# Altium footprint library QFN_Sq_65P_Side_L.PcbLib: 53 footprints (part 3 of 4)
Each footprint in its own frame and in the unit in brackets; x right, y up, seen from the top. Pads: shape width x height; smd on the part's side, far side on the other; paste and mask are expansions set on the pad; w line width, h text height; cw(c..) or ccw(c..) is an arc to the next point about the centre after c.
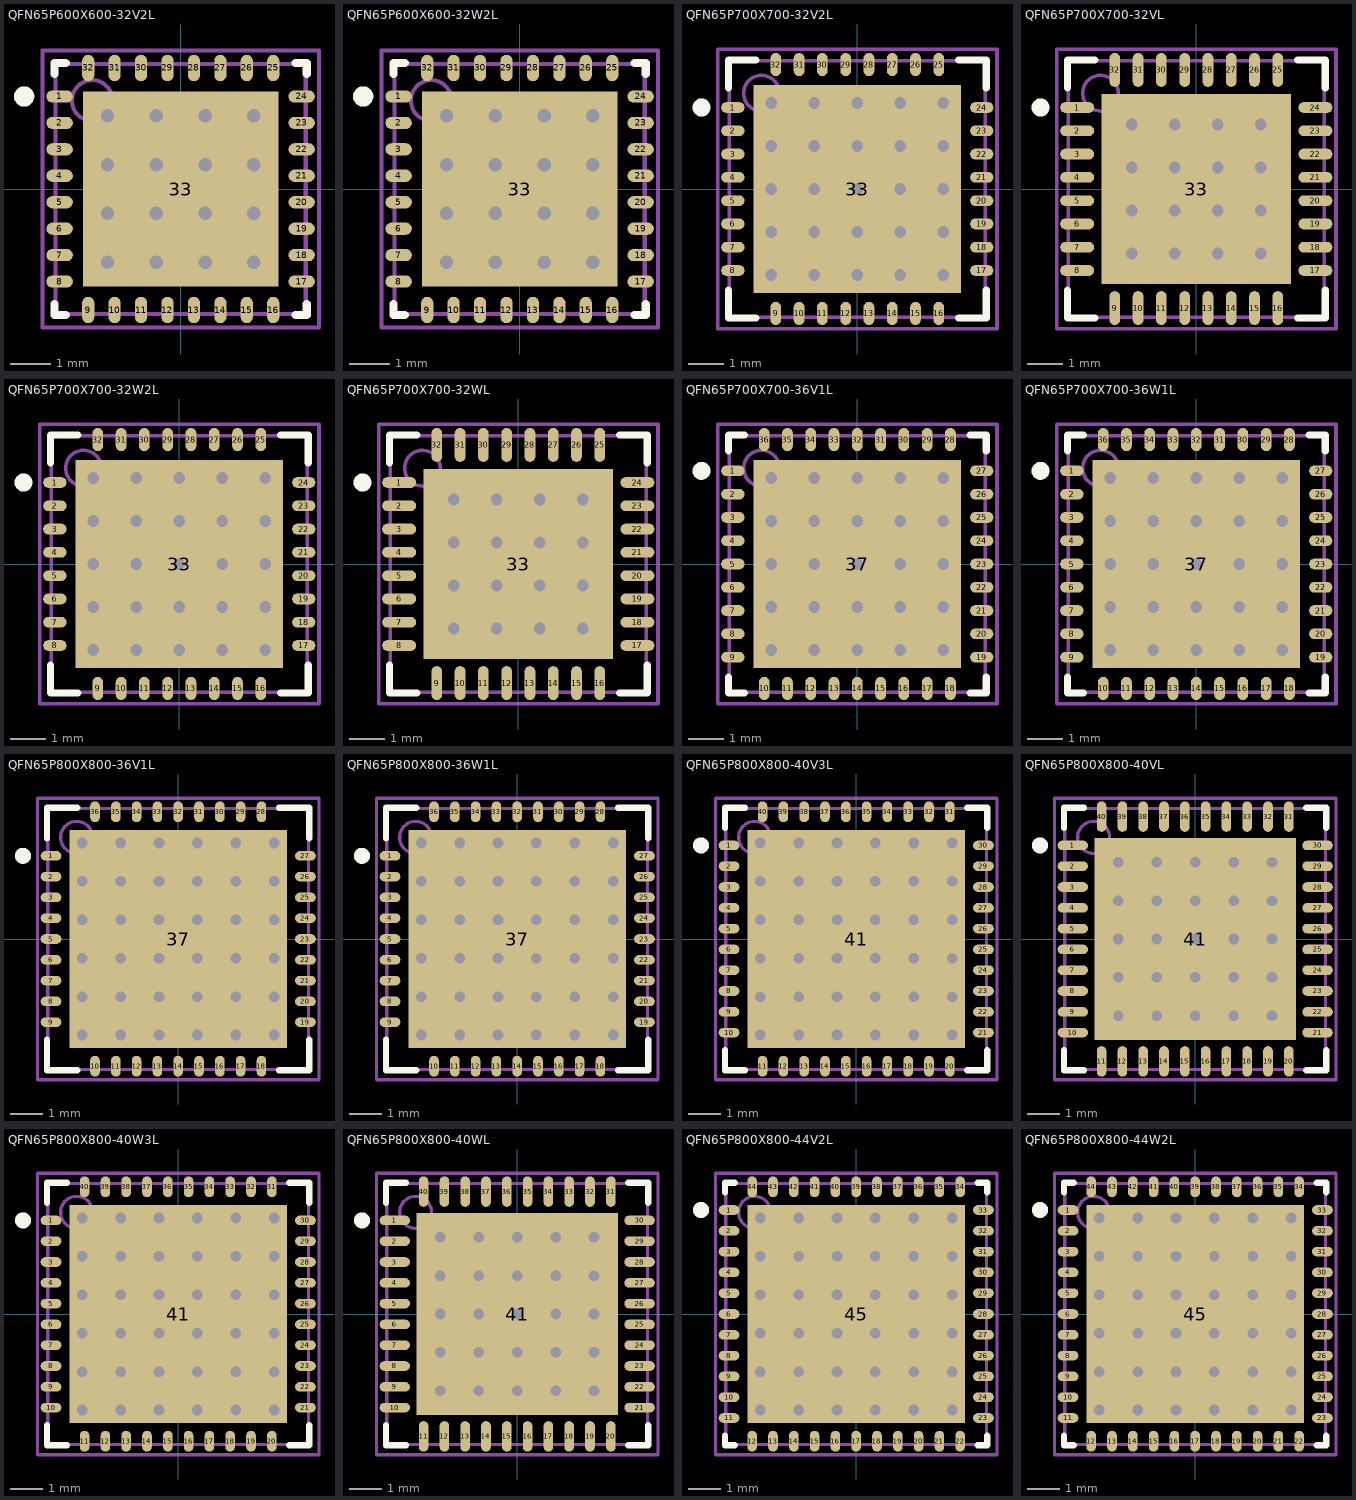
[diagram p2: the footprints below, top view; thin cyan lines are the x and y axes]

## QFN65P600X600-32V2L [mm] "QFN, 32-Leads, Body 6x6 mm, Pitch 0.65mm, IPC High Density"
height 1
pads (33):
  oval 0.65x0.3 smd: 1(-2.975,2.275) 2(-2.975,1.625) 3(-2.975,0.975) 4(-2.975,0.325) 5(-2.975,-0.325) 6(-2.975,-0.975) 7(-2.975,-1.625) 8(-2.975,-2.275) 17(2.975,-2.275) 18(2.975,-1.625) 19(2.975,-0.975) 20(2.975,-0.325) 21(2.975,0.325) 22(2.975,0.975) 23(2.975,1.625) 24(2.975,2.275)
  oval 0.3x0.65 smd: 9(-2.275,-2.975) 10(-1.625,-2.975) 11(-0.975,-2.975) 12(-0.325,-2.975) 13(0.325,-2.975) 14(0.975,-2.975) 15(1.625,-2.975) 16(2.275,-2.975) 25(2.275,2.975) 26(1.625,2.975) 27(0.975,2.975) 28(0.325,2.975) 29(-0.325,2.975) 30(-0.975,2.975) 31(-1.625,2.975) 32(-2.275,2.975)
  rect 4.8x4.8 smd: 33(0,0)
via 1.8,-1.8 diameter 0.66 hole 0.33
via 0.6,-1.8 diameter 0.66 hole 0.33
via -0.6,-1.8 diameter 0.66 hole 0.33
via -1.8,-1.8 diameter 0.66 hole 0.33
via 1.8,-0.6 diameter 0.66 hole 0.33
via 0.6,-0.6 diameter 0.66 hole 0.33
via -0.6,-0.6 diameter 0.66 hole 0.33
via -1.8,-0.6 diameter 0.66 hole 0.33
via 1.8,0.6 diameter 0.66 hole 0.33
via 0.6,0.6 diameter 0.66 hole 0.33
via -0.6,0.6 diameter 0.66 hole 0.33
via -1.8,0.6 diameter 0.66 hole 0.33
via 1.8,1.8 diameter 0.66 hole 0.33
via 0.6,1.8 diameter 0.66 hole 0.33
via -0.6,1.8 diameter 0.66 hole 0.33
via -1.8,1.8 diameter 0.66 hole 0.33
Top Overlay:
  circle w0.25: c-3.85,2.275 r0.125
  lines w0.2: -3.1,-2.825 -3.1,-3.1 -2.825,-3.1 ; -3.1,2.825 -3.1,3.1 -2.825,3.1 ; 2.825,-3.1 3.1,-3.1 3.1,-2.825 ; 2.825,3.1 3.1,3.1 3.1,2.825
Mechanical 13:
  circle w0.1: c-2.175,2.175 r0.5
  lines w0.1: -3.075,-3.075 3.075,-3.075 3.075,3.075 -3.075,3.075 -3.075,-3.075
Mechanical 15:
  lines w0.1: -0.5,0 0.5,0 ; 0,-0.5 0,0.5 ; -3.4,-3.4 3.4,-3.4 3.4,3.4 -3.4,3.4 -3.4,-3.4
3D body: height 1, standoff 0, extent -3.075,-3.075 3.075,3.075

## QFN65P600X600-32W2L [mm] "QFN, 32-Leads, Body 6x6 mm, Pitch 0.65mm, IPC High Density"
height 0.8
pads (33):
  oval 0.65x0.3 smd: 1(-2.975,2.275) 2(-2.975,1.625) 3(-2.975,0.975) 4(-2.975,0.325) 5(-2.975,-0.325) 6(-2.975,-0.975) 7(-2.975,-1.625) 8(-2.975,-2.275) 17(2.975,-2.275) 18(2.975,-1.625) 19(2.975,-0.975) 20(2.975,-0.325) 21(2.975,0.325) 22(2.975,0.975) 23(2.975,1.625) 24(2.975,2.275)
  oval 0.3x0.65 smd: 9(-2.275,-2.975) 10(-1.625,-2.975) 11(-0.975,-2.975) 12(-0.325,-2.975) 13(0.325,-2.975) 14(0.975,-2.975) 15(1.625,-2.975) 16(2.275,-2.975) 25(2.275,2.975) 26(1.625,2.975) 27(0.975,2.975) 28(0.325,2.975) 29(-0.325,2.975) 30(-0.975,2.975) 31(-1.625,2.975) 32(-2.275,2.975)
  rect 4.8x4.8 smd: 33(0,0)
via 1.8,-1.8 diameter 0.66 hole 0.33
via 0.6,-1.8 diameter 0.66 hole 0.33
via -0.6,-1.8 diameter 0.66 hole 0.33
via -1.8,-1.8 diameter 0.66 hole 0.33
via 1.8,-0.6 diameter 0.66 hole 0.33
via 0.6,-0.6 diameter 0.66 hole 0.33
via -0.6,-0.6 diameter 0.66 hole 0.33
via -1.8,-0.6 diameter 0.66 hole 0.33
via 1.8,0.6 diameter 0.66 hole 0.33
via 0.6,0.6 diameter 0.66 hole 0.33
via -0.6,0.6 diameter 0.66 hole 0.33
via -1.8,0.6 diameter 0.66 hole 0.33
via 1.8,1.8 diameter 0.66 hole 0.33
via 0.6,1.8 diameter 0.66 hole 0.33
via -0.6,1.8 diameter 0.66 hole 0.33
via -1.8,1.8 diameter 0.66 hole 0.33
Top Overlay:
  circle w0.25: c-3.85,2.275 r0.125
  lines w0.2: -3.1,-2.825 -3.1,-3.1 -2.825,-3.1 ; -3.1,2.825 -3.1,3.1 -2.825,3.1 ; 2.825,-3.1 3.1,-3.1 3.1,-2.825 ; 2.825,3.1 3.1,3.1 3.1,2.825
Mechanical 13:
  circle w0.1: c-2.175,2.175 r0.5
  lines w0.1: -3.075,-3.075 3.075,-3.075 3.075,3.075 -3.075,3.075 -3.075,-3.075
Mechanical 15:
  lines w0.1: -0.5,0 0.5,0 ; 0,-0.5 0,0.5 ; -3.4,-3.4 3.4,-3.4 3.4,3.4 -3.4,3.4 -3.4,-3.4
3D body: height 0.8, standoff 0, extent -3.075,-3.075 3.075,3.075

## QFN65P700X700-32V2L [mm] "QFN, 32-Leads, Body 7x7 mm, Pitch 0.65mm, IPC High Density"
height 1
pads (33):
  oval 0.65x0.3 smd: 1(-3.475,2.275) 2(-3.475,1.625) 3(-3.475,0.975) 4(-3.475,0.325) 5(-3.475,-0.325) 6(-3.475,-0.975) 7(-3.475,-1.625) 8(-3.475,-2.275) 17(3.475,-2.275) 18(3.475,-1.625) 19(3.475,-0.975) 20(3.475,-0.325) 21(3.475,0.325) 22(3.475,0.975) 23(3.475,1.625) 24(3.475,2.275)
  oval 0.3x0.65 smd: 9(-2.275,-3.475) 10(-1.625,-3.475) 11(-0.975,-3.475) 12(-0.325,-3.475) 13(0.325,-3.475) 14(0.975,-3.475) 15(1.625,-3.475) 16(2.275,-3.475) 25(2.275,3.475) 26(1.625,3.475) 27(0.975,3.475) 28(0.325,3.475) 29(-0.325,3.475) 30(-0.975,3.475) 31(-1.625,3.475) 32(-2.275,3.475)
  rect 5.8x5.8 smd: 33(0,0)
via 2.4,-2.4 diameter 0.66 hole 0.33
via 1.2,-2.4 diameter 0.66 hole 0.33
via 0,-2.4 diameter 0.66 hole 0.33
via -1.2,-2.4 diameter 0.66 hole 0.33
via -2.4,-2.4 diameter 0.66 hole 0.33
via 2.4,-1.2 diameter 0.66 hole 0.33
via 1.2,-1.2 diameter 0.66 hole 0.33
via 0,-1.2 diameter 0.66 hole 0.33
via -1.2,-1.2 diameter 0.66 hole 0.33
via -2.4,-1.2 diameter 0.66 hole 0.33
via 2.4,0 diameter 0.66 hole 0.33
via 1.2,0 diameter 0.66 hole 0.33
via 0,0 diameter 0.66 hole 0.33
via -1.2,0 diameter 0.66 hole 0.33
via -2.4,0 diameter 0.66 hole 0.33
via 2.4,1.2 diameter 0.66 hole 0.33
via 1.2,1.2 diameter 0.66 hole 0.33
via 0,1.2 diameter 0.66 hole 0.33
via -1.2,1.2 diameter 0.66 hole 0.33
via -2.4,1.2 diameter 0.66 hole 0.33
via 2.4,2.4 diameter 0.66 hole 0.33
via 1.2,2.4 diameter 0.66 hole 0.33
via 0,2.4 diameter 0.66 hole 0.33
via -1.2,2.4 diameter 0.66 hole 0.33
via -2.4,2.4 diameter 0.66 hole 0.33
Top Overlay:
  circle w0.25: c-4.35,2.275 r0.125
  lines w0.2: -3.6,-2.825 -3.6,-3.6 -2.825,-3.6 ; -3.6,2.825 -3.6,3.6 -2.825,3.6 ; 2.825,-3.6 3.6,-3.6 3.6,-2.825 ; 2.825,3.6 3.6,3.6 3.6,2.825
Mechanical 13:
  circle w0.1: c-2.675,2.675 r0.5
  lines w0.1: -3.575,-3.575 3.575,-3.575 3.575,3.575 -3.575,3.575 -3.575,-3.575
Mechanical 15:
  lines w0.1: -0.5,0 0.5,0 ; 0,-0.5 0,0.5 ; -3.9,-3.9 3.9,-3.9 3.9,3.9 -3.9,3.9 -3.9,-3.9
3D body: height 1, standoff 0, extent -3.575,-3.575 3.575,3.575

## QFN65P700X700-32VL [mm] "QFN, 32-Leads, Body 7x7 mm, Pitch 0.65mm, IPC High Density"
height 1
pads (33):
  oval 0.95x0.3 smd: 1(-3.325,2.275) 2(-3.325,1.625) 3(-3.325,0.975) 4(-3.325,0.325) 5(-3.325,-0.325) 6(-3.325,-0.975) 7(-3.325,-1.625) 8(-3.325,-2.275) 17(3.325,-2.275) 18(3.325,-1.625) 19(3.325,-0.975) 20(3.325,-0.325) 21(3.325,0.325) 22(3.325,0.975) 23(3.325,1.625) 24(3.325,2.275)
  oval 0.3x0.95 smd: 9(-2.275,-3.325) 10(-1.625,-3.325) 11(-0.975,-3.325) 12(-0.325,-3.325) 13(0.325,-3.325) 14(0.975,-3.325) 15(1.625,-3.325) 16(2.275,-3.325) 25(2.275,3.325) 26(1.625,3.325) 27(0.975,3.325) 28(0.325,3.325) 29(-0.325,3.325) 30(-0.975,3.325) 31(-1.625,3.325) 32(-2.275,3.325)
  rect 5.3x5.3 smd: 33(0,0)
via 1.8,-1.8 diameter 0.66 hole 0.33
via 0.6,-1.8 diameter 0.66 hole 0.33
via -0.6,-1.8 diameter 0.66 hole 0.33
via -1.8,-1.8 diameter 0.66 hole 0.33
via 1.8,-0.6 diameter 0.66 hole 0.33
via 0.6,-0.6 diameter 0.66 hole 0.33
via -0.6,-0.6 diameter 0.66 hole 0.33
via -1.8,-0.6 diameter 0.66 hole 0.33
via 1.8,0.6 diameter 0.66 hole 0.33
via 0.6,0.6 diameter 0.66 hole 0.33
via -0.6,0.6 diameter 0.66 hole 0.33
via -1.8,0.6 diameter 0.66 hole 0.33
via 1.8,1.8 diameter 0.66 hole 0.33
via 0.6,1.8 diameter 0.66 hole 0.33
via -0.6,1.8 diameter 0.66 hole 0.33
via -1.8,1.8 diameter 0.66 hole 0.33
Top Overlay:
  circle w0.25: c-4.35,2.275 r0.125
  lines w0.2: -3.6,-2.825 -3.6,-3.6 -2.825,-3.6 ; -3.6,2.825 -3.6,3.6 -2.825,3.6 ; 2.825,-3.6 3.6,-3.6 3.6,-2.825 ; 2.825,3.6 3.6,3.6 3.6,2.825
Mechanical 13:
  circle w0.1: c-2.675,2.675 r0.5
  lines w0.1: -3.575,-3.575 3.575,-3.575 3.575,3.575 -3.575,3.575 -3.575,-3.575
Mechanical 15:
  lines w0.1: -0.5,0 0.5,0 ; 0,-0.5 0,0.5 ; -3.9,-3.9 3.9,-3.9 3.9,3.9 -3.9,3.9 -3.9,-3.9
3D body: height 1, standoff 0, extent -3.575,-3.575 3.575,3.575

## QFN65P700X700-32W2L [mm] "QFN, 32-Leads, Body 7x7 mm, Pitch 0.65mm, IPC High Density"
height 0.8
pads (33):
  oval 0.65x0.3 smd: 1(-3.475,2.275) 2(-3.475,1.625) 3(-3.475,0.975) 4(-3.475,0.325) 5(-3.475,-0.325) 6(-3.475,-0.975) 7(-3.475,-1.625) 8(-3.475,-2.275) 17(3.475,-2.275) 18(3.475,-1.625) 19(3.475,-0.975) 20(3.475,-0.325) 21(3.475,0.325) 22(3.475,0.975) 23(3.475,1.625) 24(3.475,2.275)
  oval 0.3x0.65 smd: 9(-2.275,-3.475) 10(-1.625,-3.475) 11(-0.975,-3.475) 12(-0.325,-3.475) 13(0.325,-3.475) 14(0.975,-3.475) 15(1.625,-3.475) 16(2.275,-3.475) 25(2.275,3.475) 26(1.625,3.475) 27(0.975,3.475) 28(0.325,3.475) 29(-0.325,3.475) 30(-0.975,3.475) 31(-1.625,3.475) 32(-2.275,3.475)
  rect 5.8x5.8 smd: 33(0,0)
via 2.4,-2.4 diameter 0.66 hole 0.33
via 1.2,-2.4 diameter 0.66 hole 0.33
via 0,-2.4 diameter 0.66 hole 0.33
via -1.2,-2.4 diameter 0.66 hole 0.33
via -2.4,-2.4 diameter 0.66 hole 0.33
via 2.4,-1.2 diameter 0.66 hole 0.33
via 1.2,-1.2 diameter 0.66 hole 0.33
via 0,-1.2 diameter 0.66 hole 0.33
via -1.2,-1.2 diameter 0.66 hole 0.33
via -2.4,-1.2 diameter 0.66 hole 0.33
via 2.4,0 diameter 0.66 hole 0.33
via 1.2,0 diameter 0.66 hole 0.33
via 0,0 diameter 0.66 hole 0.33
via -1.2,0 diameter 0.66 hole 0.33
via -2.4,0 diameter 0.66 hole 0.33
via 2.4,1.2 diameter 0.66 hole 0.33
via 1.2,1.2 diameter 0.66 hole 0.33
via 0,1.2 diameter 0.66 hole 0.33
via -1.2,1.2 diameter 0.66 hole 0.33
via -2.4,1.2 diameter 0.66 hole 0.33
via 2.4,2.4 diameter 0.66 hole 0.33
via 1.2,2.4 diameter 0.66 hole 0.33
via 0,2.4 diameter 0.66 hole 0.33
via -1.2,2.4 diameter 0.66 hole 0.33
via -2.4,2.4 diameter 0.66 hole 0.33
Top Overlay:
  circle w0.25: c-4.35,2.275 r0.125
  lines w0.2: -3.6,-2.825 -3.6,-3.6 -2.825,-3.6 ; -3.6,2.825 -3.6,3.6 -2.825,3.6 ; 2.825,-3.6 3.6,-3.6 3.6,-2.825 ; 2.825,3.6 3.6,3.6 3.6,2.825
Mechanical 13:
  circle w0.1: c-2.675,2.675 r0.5
  lines w0.1: -3.575,-3.575 3.575,-3.575 3.575,3.575 -3.575,3.575 -3.575,-3.575
Mechanical 15:
  lines w0.1: -0.5,0 0.5,0 ; 0,-0.5 0,0.5 ; -3.9,-3.9 3.9,-3.9 3.9,3.9 -3.9,3.9 -3.9,-3.9
3D body: height 0.8, standoff 0, extent -3.575,-3.575 3.575,3.575

## QFN65P700X700-32WL [mm] "QFN, 32-Leads, Body 7x7 mm, Pitch 0.65mm, IPC High Density"
height 0.8
pads (33):
  oval 0.95x0.3 smd: 1(-3.325,2.275) 2(-3.325,1.625) 3(-3.325,0.975) 4(-3.325,0.325) 5(-3.325,-0.325) 6(-3.325,-0.975) 7(-3.325,-1.625) 8(-3.325,-2.275) 17(3.325,-2.275) 18(3.325,-1.625) 19(3.325,-0.975) 20(3.325,-0.325) 21(3.325,0.325) 22(3.325,0.975) 23(3.325,1.625) 24(3.325,2.275)
  oval 0.3x0.95 smd: 9(-2.275,-3.325) 10(-1.625,-3.325) 11(-0.975,-3.325) 12(-0.325,-3.325) 13(0.325,-3.325) 14(0.975,-3.325) 15(1.625,-3.325) 16(2.275,-3.325) 25(2.275,3.325) 26(1.625,3.325) 27(0.975,3.325) 28(0.325,3.325) 29(-0.325,3.325) 30(-0.975,3.325) 31(-1.625,3.325) 32(-2.275,3.325)
  rect 5.3x5.3 smd: 33(0,0)
via 1.8,-1.8 diameter 0.66 hole 0.33
via 0.6,-1.8 diameter 0.66 hole 0.33
via -0.6,-1.8 diameter 0.66 hole 0.33
via -1.8,-1.8 diameter 0.66 hole 0.33
via 1.8,-0.6 diameter 0.66 hole 0.33
via 0.6,-0.6 diameter 0.66 hole 0.33
via -0.6,-0.6 diameter 0.66 hole 0.33
via -1.8,-0.6 diameter 0.66 hole 0.33
via 1.8,0.6 diameter 0.66 hole 0.33
via 0.6,0.6 diameter 0.66 hole 0.33
via -0.6,0.6 diameter 0.66 hole 0.33
via -1.8,0.6 diameter 0.66 hole 0.33
via 1.8,1.8 diameter 0.66 hole 0.33
via 0.6,1.8 diameter 0.66 hole 0.33
via -0.6,1.8 diameter 0.66 hole 0.33
via -1.8,1.8 diameter 0.66 hole 0.33
Top Overlay:
  circle w0.25: c-4.35,2.275 r0.125
  lines w0.2: -3.6,-2.825 -3.6,-3.6 -2.825,-3.6 ; -3.6,2.825 -3.6,3.6 -2.825,3.6 ; 2.825,-3.6 3.6,-3.6 3.6,-2.825 ; 2.825,3.6 3.6,3.6 3.6,2.825
Mechanical 13:
  circle w0.1: c-2.675,2.675 r0.5
  lines w0.1: -3.575,-3.575 3.575,-3.575 3.575,3.575 -3.575,3.575 -3.575,-3.575
Mechanical 15:
  lines w0.1: -0.5,0 0.5,0 ; 0,-0.5 0,0.5 ; -3.9,-3.9 3.9,-3.9 3.9,3.9 -3.9,3.9 -3.9,-3.9
3D body: height 0.8, standoff 0, extent -3.575,-3.575 3.575,3.575

## QFN65P700X700-36V1L [mm] "QFN, 36-Leads, Body 7x7 mm, Pitch 0.65mm, IPC High Density"
height 1
pads (37):
  oval 0.65x0.3 smd: 1(-3.475,2.6) 2(-3.475,1.95) 3(-3.475,1.3) 4(-3.475,0.65) 5(-3.475,0) 6(-3.475,-0.65) 7(-3.475,-1.3) 8(-3.475,-1.95) 9(-3.475,-2.6) 19(3.475,-2.6) 20(3.475,-1.95) 21(3.475,-1.3) 22(3.475,-0.65) 23(3.475,0) 24(3.475,0.65) 25(3.475,1.3) 26(3.475,1.95) 27(3.475,2.6)
  oval 0.3x0.65 smd: 10(-2.6,-3.475) 11(-1.95,-3.475) 12(-1.3,-3.475) 13(-0.65,-3.475) 14(0,-3.475) 15(0.65,-3.475) 16(1.3,-3.475) 17(1.95,-3.475) 18(2.6,-3.475) 28(2.6,3.475) 29(1.95,3.475) 30(1.3,3.475) 31(0.65,3.475) 32(0,3.475) 33(-0.65,3.475) 34(-1.3,3.475) 35(-1.95,3.475) 36(-2.6,3.475)
  rect 5.8x5.8 smd: 37(0,0)
via 2.4,-2.4 diameter 0.66 hole 0.33
via 1.2,-2.4 diameter 0.66 hole 0.33
via 0,-2.4 diameter 0.66 hole 0.33
via -1.2,-2.4 diameter 0.66 hole 0.33
via -2.4,-2.4 diameter 0.66 hole 0.33
via 2.4,-1.2 diameter 0.66 hole 0.33
via 1.2,-1.2 diameter 0.66 hole 0.33
via 0,-1.2 diameter 0.66 hole 0.33
via -1.2,-1.2 diameter 0.66 hole 0.33
via -2.4,-1.2 diameter 0.66 hole 0.33
via 2.4,0 diameter 0.66 hole 0.33
via 1.2,0 diameter 0.66 hole 0.33
via 0,0 diameter 0.66 hole 0.33
via -1.2,0 diameter 0.66 hole 0.33
via -2.4,0 diameter 0.66 hole 0.33
via 2.4,1.2 diameter 0.66 hole 0.33
via 1.2,1.2 diameter 0.66 hole 0.33
via 0,1.2 diameter 0.66 hole 0.33
via -1.2,1.2 diameter 0.66 hole 0.33
via -2.4,1.2 diameter 0.66 hole 0.33
via 2.4,2.4 diameter 0.66 hole 0.33
via 1.2,2.4 diameter 0.66 hole 0.33
via 0,2.4 diameter 0.66 hole 0.33
via -1.2,2.4 diameter 0.66 hole 0.33
via -2.4,2.4 diameter 0.66 hole 0.33
Top Overlay:
  circle w0.25: c-4.35,2.6 r0.125
  lines w0.2: -3.6,-3.15 -3.6,-3.6 -3.15,-3.6 ; -3.6,3.15 -3.6,3.6 -3.15,3.6 ; 3.15,-3.6 3.6,-3.6 3.6,-3.15 ; 3.15,3.6 3.6,3.6 3.6,3.15
Mechanical 13:
  circle w0.1: c-2.675,2.675 r0.5
  lines w0.1: -3.575,-3.575 3.575,-3.575 3.575,3.575 -3.575,3.575 -3.575,-3.575
Mechanical 15:
  lines w0.1: -0.5,0 0.5,0 ; 0,-0.5 0,0.5 ; -3.9,-3.9 3.9,-3.9 3.9,3.9 -3.9,3.9 -3.9,-3.9
3D body: height 1, standoff 0, extent -3.575,-3.575 3.575,3.575

## QFN65P700X700-36W1L [mm] "QFN, 36-Leads, Body 7x7 mm, Pitch 0.65mm, IPC High Density"
height 0.8
pads (37):
  oval 0.65x0.3 smd: 1(-3.475,2.6) 2(-3.475,1.95) 3(-3.475,1.3) 4(-3.475,0.65) 5(-3.475,0) 6(-3.475,-0.65) 7(-3.475,-1.3) 8(-3.475,-1.95) 9(-3.475,-2.6) 19(3.475,-2.6) 20(3.475,-1.95) 21(3.475,-1.3) 22(3.475,-0.65) 23(3.475,0) 24(3.475,0.65) 25(3.475,1.3) 26(3.475,1.95) 27(3.475,2.6)
  oval 0.3x0.65 smd: 10(-2.6,-3.475) 11(-1.95,-3.475) 12(-1.3,-3.475) 13(-0.65,-3.475) 14(0,-3.475) 15(0.65,-3.475) 16(1.3,-3.475) 17(1.95,-3.475) 18(2.6,-3.475) 28(2.6,3.475) 29(1.95,3.475) 30(1.3,3.475) 31(0.65,3.475) 32(0,3.475) 33(-0.65,3.475) 34(-1.3,3.475) 35(-1.95,3.475) 36(-2.6,3.475)
  rect 5.8x5.8 smd: 37(0,0)
via 2.4,-2.4 diameter 0.66 hole 0.33
via 1.2,-2.4 diameter 0.66 hole 0.33
via 0,-2.4 diameter 0.66 hole 0.33
via -1.2,-2.4 diameter 0.66 hole 0.33
via -2.4,-2.4 diameter 0.66 hole 0.33
via 2.4,-1.2 diameter 0.66 hole 0.33
via 1.2,-1.2 diameter 0.66 hole 0.33
via 0,-1.2 diameter 0.66 hole 0.33
via -1.2,-1.2 diameter 0.66 hole 0.33
via -2.4,-1.2 diameter 0.66 hole 0.33
via 2.4,0 diameter 0.66 hole 0.33
via 1.2,0 diameter 0.66 hole 0.33
via 0,0 diameter 0.66 hole 0.33
via -1.2,0 diameter 0.66 hole 0.33
via -2.4,0 diameter 0.66 hole 0.33
via 2.4,1.2 diameter 0.66 hole 0.33
via 1.2,1.2 diameter 0.66 hole 0.33
via 0,1.2 diameter 0.66 hole 0.33
via -1.2,1.2 diameter 0.66 hole 0.33
via -2.4,1.2 diameter 0.66 hole 0.33
via 2.4,2.4 diameter 0.66 hole 0.33
via 1.2,2.4 diameter 0.66 hole 0.33
via 0,2.4 diameter 0.66 hole 0.33
via -1.2,2.4 diameter 0.66 hole 0.33
via -2.4,2.4 diameter 0.66 hole 0.33
Top Overlay:
  circle w0.25: c-4.35,2.6 r0.125
  lines w0.2: -3.6,-3.15 -3.6,-3.6 -3.15,-3.6 ; -3.6,3.15 -3.6,3.6 -3.15,3.6 ; 3.15,-3.6 3.6,-3.6 3.6,-3.15 ; 3.15,3.6 3.6,3.6 3.6,3.15
Mechanical 13:
  circle w0.1: c-2.675,2.675 r0.5
  lines w0.1: -3.575,-3.575 3.575,-3.575 3.575,3.575 -3.575,3.575 -3.575,-3.575
Mechanical 15:
  lines w0.1: -0.5,0 0.5,0 ; 0,-0.5 0,0.5 ; -3.9,-3.9 3.9,-3.9 3.9,3.9 -3.9,3.9 -3.9,-3.9
3D body: height 0.8, standoff 0, extent -3.575,-3.575 3.575,3.575

## QFN65P800X800-36V1L [mm] "QFN, 36-Leads, Body 8x8 mm, Pitch 0.65mm, IPC High Density"
height 1
pads (37):
  oval 0.65x0.3 smd: 1(-3.975,2.6) 2(-3.975,1.95) 3(-3.975,1.3) 4(-3.975,0.65) 5(-3.975,0) 6(-3.975,-0.65) 7(-3.975,-1.3) 8(-3.975,-1.95) 9(-3.975,-2.6) 19(3.975,-2.6) 20(3.975,-1.95) 21(3.975,-1.3) 22(3.975,-0.65) 23(3.975,0) 24(3.975,0.65) 25(3.975,1.3) 26(3.975,1.95) 27(3.975,2.6)
  oval 0.3x0.65 smd: 10(-2.6,-3.975) 11(-1.95,-3.975) 12(-1.3,-3.975) 13(-0.65,-3.975) 14(0,-3.975) 15(0.65,-3.975) 16(1.3,-3.975) 17(1.95,-3.975) 18(2.6,-3.975) 28(2.6,3.975) 29(1.95,3.975) 30(1.3,3.975) 31(0.65,3.975) 32(0,3.975) 33(-0.65,3.975) 34(-1.3,3.975) 35(-1.95,3.975) 36(-2.6,3.975)
  rect 6.8x6.8 smd: 37(0,0)
via 3,-3 diameter 0.66 hole 0.33
via 1.8,-3 diameter 0.66 hole 0.33
via 0.6,-3 diameter 0.66 hole 0.33
via -0.6,-3 diameter 0.66 hole 0.33
via -1.8,-3 diameter 0.66 hole 0.33
via -3,-3 diameter 0.66 hole 0.33
via 3,-1.8 diameter 0.66 hole 0.33
via 1.8,-1.8 diameter 0.66 hole 0.33
via 0.6,-1.8 diameter 0.66 hole 0.33
via -0.6,-1.8 diameter 0.66 hole 0.33
via -1.8,-1.8 diameter 0.66 hole 0.33
via -3,-1.8 diameter 0.66 hole 0.33
via 3,-0.6 diameter 0.66 hole 0.33
via 1.8,-0.6 diameter 0.66 hole 0.33
via 0.6,-0.6 diameter 0.66 hole 0.33
via -0.6,-0.6 diameter 0.66 hole 0.33
via -1.8,-0.6 diameter 0.66 hole 0.33
via -3,-0.6 diameter 0.66 hole 0.33
via 3,0.6 diameter 0.66 hole 0.33
via 1.8,0.6 diameter 0.66 hole 0.33
via 0.6,0.6 diameter 0.66 hole 0.33
via -0.6,0.6 diameter 0.66 hole 0.33
via -1.8,0.6 diameter 0.66 hole 0.33
via -3,0.6 diameter 0.66 hole 0.33
via 3,1.8 diameter 0.66 hole 0.33
via 1.8,1.8 diameter 0.66 hole 0.33
via 0.6,1.8 diameter 0.66 hole 0.33
via -0.6,1.8 diameter 0.66 hole 0.33
via -1.8,1.8 diameter 0.66 hole 0.33
via -3,1.8 diameter 0.66 hole 0.33
via 3,3 diameter 0.66 hole 0.33
via 1.8,3 diameter 0.66 hole 0.33
via 0.6,3 diameter 0.66 hole 0.33
via -0.6,3 diameter 0.66 hole 0.33
via -1.8,3 diameter 0.66 hole 0.33
via -3,3 diameter 0.66 hole 0.33
Top Overlay:
  circle w0.25: c-4.85,2.6 r0.125
  lines w0.2: -4.1,-3.15 -4.1,-4.1 -3.15,-4.1 ; -4.1,3.15 -4.1,4.1 -3.15,4.1 ; 3.15,-4.1 4.1,-4.1 4.1,-3.15 ; 3.15,4.1 4.1,4.1 4.1,3.15
Mechanical 13:
  circle w0.1: c-3.175,3.175 r0.5
  lines w0.1: -4.075,-4.075 4.075,-4.075 4.075,4.075 -4.075,4.075 -4.075,-4.075
Mechanical 15:
  lines w0.1: -0.5,0 0.5,0 ; 0,-0.5 0,0.5 ; -4.4,-4.4 4.4,-4.4 4.4,4.4 -4.4,4.4 -4.4,-4.4
3D body: height 1, standoff 0, extent -4.075,-4.075 4.075,4.075

## QFN65P800X800-36W1L [mm] "QFN, 36-Leads, Body 8x8 mm, Pitch 0.65mm, IPC High Density"
height 0.8
pads (37):
  oval 0.65x0.3 smd: 1(-3.975,2.6) 2(-3.975,1.95) 3(-3.975,1.3) 4(-3.975,0.65) 5(-3.975,0) 6(-3.975,-0.65) 7(-3.975,-1.3) 8(-3.975,-1.95) 9(-3.975,-2.6) 19(3.975,-2.6) 20(3.975,-1.95) 21(3.975,-1.3) 22(3.975,-0.65) 23(3.975,0) 24(3.975,0.65) 25(3.975,1.3) 26(3.975,1.95) 27(3.975,2.6)
  oval 0.3x0.65 smd: 10(-2.6,-3.975) 11(-1.95,-3.975) 12(-1.3,-3.975) 13(-0.65,-3.975) 14(0,-3.975) 15(0.65,-3.975) 16(1.3,-3.975) 17(1.95,-3.975) 18(2.6,-3.975) 28(2.6,3.975) 29(1.95,3.975) 30(1.3,3.975) 31(0.65,3.975) 32(0,3.975) 33(-0.65,3.975) 34(-1.3,3.975) 35(-1.95,3.975) 36(-2.6,3.975)
  rect 6.8x6.8 smd: 37(0,0)
via 3,-3 diameter 0.66 hole 0.33
via 1.8,-3 diameter 0.66 hole 0.33
via 0.6,-3 diameter 0.66 hole 0.33
via -0.6,-3 diameter 0.66 hole 0.33
via -1.8,-3 diameter 0.66 hole 0.33
via -3,-3 diameter 0.66 hole 0.33
via 3,-1.8 diameter 0.66 hole 0.33
via 1.8,-1.8 diameter 0.66 hole 0.33
via 0.6,-1.8 diameter 0.66 hole 0.33
via -0.6,-1.8 diameter 0.66 hole 0.33
via -1.8,-1.8 diameter 0.66 hole 0.33
via -3,-1.8 diameter 0.66 hole 0.33
via 3,-0.6 diameter 0.66 hole 0.33
via 1.8,-0.6 diameter 0.66 hole 0.33
via 0.6,-0.6 diameter 0.66 hole 0.33
via -0.6,-0.6 diameter 0.66 hole 0.33
via -1.8,-0.6 diameter 0.66 hole 0.33
via -3,-0.6 diameter 0.66 hole 0.33
via 3,0.6 diameter 0.66 hole 0.33
via 1.8,0.6 diameter 0.66 hole 0.33
via 0.6,0.6 diameter 0.66 hole 0.33
via -0.6,0.6 diameter 0.66 hole 0.33
via -1.8,0.6 diameter 0.66 hole 0.33
via -3,0.6 diameter 0.66 hole 0.33
via 3,1.8 diameter 0.66 hole 0.33
via 1.8,1.8 diameter 0.66 hole 0.33
via 0.6,1.8 diameter 0.66 hole 0.33
via -0.6,1.8 diameter 0.66 hole 0.33
via -1.8,1.8 diameter 0.66 hole 0.33
via -3,1.8 diameter 0.66 hole 0.33
via 3,3 diameter 0.66 hole 0.33
via 1.8,3 diameter 0.66 hole 0.33
via 0.6,3 diameter 0.66 hole 0.33
via -0.6,3 diameter 0.66 hole 0.33
via -1.8,3 diameter 0.66 hole 0.33
via -3,3 diameter 0.66 hole 0.33
Top Overlay:
  circle w0.25: c-4.85,2.6 r0.125
  lines w0.2: -4.1,-3.15 -4.1,-4.1 -3.15,-4.1 ; -4.1,3.15 -4.1,4.1 -3.15,4.1 ; 3.15,-4.1 4.1,-4.1 4.1,-3.15 ; 3.15,4.1 4.1,4.1 4.1,3.15
Mechanical 13:
  circle w0.1: c-3.175,3.175 r0.5
  lines w0.1: -4.075,-4.075 4.075,-4.075 4.075,4.075 -4.075,4.075 -4.075,-4.075
Mechanical 15:
  lines w0.1: -0.5,0 0.5,0 ; 0,-0.5 0,0.5 ; -4.4,-4.4 4.4,-4.4 4.4,4.4 -4.4,4.4 -4.4,-4.4
3D body: height 0.8, standoff 0, extent -4.075,-4.075 4.075,4.075

## QFN65P800X800-40V3L [mm] "QFN, 40-Leads, Body 8x8 mm, Pitch 0.65mm, IPC High Density"
height 1
pads (41):
  oval 0.65x0.3 smd: 1(-3.975,2.925) 2(-3.975,2.275) 3(-3.975,1.625) 4(-3.975,0.975) 5(-3.975,0.325) 6(-3.975,-0.325) 7(-3.975,-0.975) 8(-3.975,-1.625) 9(-3.975,-2.275) 10(-3.975,-2.925) 21(3.975,-2.925) 22(3.975,-2.275) 23(3.975,-1.625) 24(3.975,-0.975) 25(3.975,-0.325) 26(3.975,0.325) 27(3.975,0.975) 28(3.975,1.625) 29(3.975,2.275) 30(3.975,2.925)
  oval 0.3x0.65 smd: 11(-2.925,-3.975) 12(-2.275,-3.975) 13(-1.625,-3.975) 14(-0.975,-3.975) 15(-0.325,-3.975) 16(0.325,-3.975) 17(0.975,-3.975) 18(1.625,-3.975) 19(2.275,-3.975) 20(2.925,-3.975) 31(2.925,3.975) 32(2.275,3.975) 33(1.625,3.975) 34(0.975,3.975) 35(0.325,3.975) 36(-0.325,3.975) 37(-0.975,3.975) 38(-1.625,3.975) 39(-2.275,3.975) 40(-2.925,3.975)
  rect 6.8x6.8 smd: 41(0,0)
via 3,-3 diameter 0.66 hole 0.33
via 1.8,-3 diameter 0.66 hole 0.33
via 0.6,-3 diameter 0.66 hole 0.33
via -0.6,-3 diameter 0.66 hole 0.33
via -1.8,-3 diameter 0.66 hole 0.33
via -3,-3 diameter 0.66 hole 0.33
via 3,-1.8 diameter 0.66 hole 0.33
via 1.8,-1.8 diameter 0.66 hole 0.33
via 0.6,-1.8 diameter 0.66 hole 0.33
via -0.6,-1.8 diameter 0.66 hole 0.33
via -1.8,-1.8 diameter 0.66 hole 0.33
via -3,-1.8 diameter 0.66 hole 0.33
via 3,-0.6 diameter 0.66 hole 0.33
via 1.8,-0.6 diameter 0.66 hole 0.33
via 0.6,-0.6 diameter 0.66 hole 0.33
via -0.6,-0.6 diameter 0.66 hole 0.33
via -1.8,-0.6 diameter 0.66 hole 0.33
via -3,-0.6 diameter 0.66 hole 0.33
via 3,0.6 diameter 0.66 hole 0.33
via 1.8,0.6 diameter 0.66 hole 0.33
via 0.6,0.6 diameter 0.66 hole 0.33
via -0.6,0.6 diameter 0.66 hole 0.33
via -1.8,0.6 diameter 0.66 hole 0.33
via -3,0.6 diameter 0.66 hole 0.33
via 3,1.8 diameter 0.66 hole 0.33
via 1.8,1.8 diameter 0.66 hole 0.33
via 0.6,1.8 diameter 0.66 hole 0.33
via -0.6,1.8 diameter 0.66 hole 0.33
via -1.8,1.8 diameter 0.66 hole 0.33
via -3,1.8 diameter 0.66 hole 0.33
via 3,3 diameter 0.66 hole 0.33
via 1.8,3 diameter 0.66 hole 0.33
via 0.6,3 diameter 0.66 hole 0.33
via -0.6,3 diameter 0.66 hole 0.33
via -1.8,3 diameter 0.66 hole 0.33
via -3,3 diameter 0.66 hole 0.33
Top Overlay:
  circle w0.25: c-4.85,2.925 r0.125
  lines w0.2: -4.1,-3.475 -4.1,-4.1 -3.475,-4.1 ; -4.1,3.475 -4.1,4.1 -3.475,4.1 ; 3.475,-4.1 4.1,-4.1 4.1,-3.475 ; 3.475,4.1 4.1,4.1 4.1,3.475
Mechanical 13:
  circle w0.1: c-3.175,3.175 r0.5
  lines w0.1: -4.075,-4.075 4.075,-4.075 4.075,4.075 -4.075,4.075 -4.075,-4.075
Mechanical 15:
  lines w0.1: -0.5,0 0.5,0 ; 0,-0.5 0,0.5 ; -4.4,-4.4 4.4,-4.4 4.4,4.4 -4.4,4.4 -4.4,-4.4
3D body: height 1, standoff 0, extent -4.075,-4.075 4.075,4.075

## QFN65P800X800-40VL [mm] "QFN, 40-Leads, Body 8x8 mm, Pitch 0.65mm, IPC High Density"
height 1
pads (41):
  oval 0.95x0.3 smd: 1(-3.825,2.925) 2(-3.825,2.275) 3(-3.825,1.625) 4(-3.825,0.975) 5(-3.825,0.325) 6(-3.825,-0.325) 7(-3.825,-0.975) 8(-3.825,-1.625) 9(-3.825,-2.275) 10(-3.825,-2.925) 21(3.825,-2.925) 22(3.825,-2.275) 23(3.825,-1.625) 24(3.825,-0.975) 25(3.825,-0.325) 26(3.825,0.325) 27(3.825,0.975) 28(3.825,1.625) 29(3.825,2.275) 30(3.825,2.925)
  oval 0.3x0.95 smd: 11(-2.925,-3.825) 12(-2.275,-3.825) 13(-1.625,-3.825) 14(-0.975,-3.825) 15(-0.325,-3.825) 16(0.325,-3.825) 17(0.975,-3.825) 18(1.625,-3.825) 19(2.275,-3.825) 20(2.925,-3.825) 31(2.925,3.825) 32(2.275,3.825) 33(1.625,3.825) 34(0.975,3.825) 35(0.325,3.825) 36(-0.325,3.825) 37(-0.975,3.825) 38(-1.625,3.825) 39(-2.275,3.825) 40(-2.925,3.825)
  rect 6.3x6.3 smd: 41(0,0)
via 2.4,-2.4 diameter 0.66 hole 0.33
via 1.2,-2.4 diameter 0.66 hole 0.33
via 0,-2.4 diameter 0.66 hole 0.33
via -1.2,-2.4 diameter 0.66 hole 0.33
via -2.4,-2.4 diameter 0.66 hole 0.33
via 2.4,-1.2 diameter 0.66 hole 0.33
via 1.2,-1.2 diameter 0.66 hole 0.33
via 0,-1.2 diameter 0.66 hole 0.33
via -1.2,-1.2 diameter 0.66 hole 0.33
via -2.4,-1.2 diameter 0.66 hole 0.33
via 2.4,0 diameter 0.66 hole 0.33
via 1.2,0 diameter 0.66 hole 0.33
via 0,0 diameter 0.66 hole 0.33
via -1.2,0 diameter 0.66 hole 0.33
via -2.4,0 diameter 0.66 hole 0.33
via 2.4,1.2 diameter 0.66 hole 0.33
via 1.2,1.2 diameter 0.66 hole 0.33
via 0,1.2 diameter 0.66 hole 0.33
via -1.2,1.2 diameter 0.66 hole 0.33
via -2.4,1.2 diameter 0.66 hole 0.33
via 2.4,2.4 diameter 0.66 hole 0.33
via 1.2,2.4 diameter 0.66 hole 0.33
via 0,2.4 diameter 0.66 hole 0.33
via -1.2,2.4 diameter 0.66 hole 0.33
via -2.4,2.4 diameter 0.66 hole 0.33
Top Overlay:
  circle w0.25: c-4.85,2.925 r0.125
  lines w0.2: -4.1,-3.475 -4.1,-4.1 -3.475,-4.1 ; -4.1,3.475 -4.1,4.1 -3.475,4.1 ; 3.475,-4.1 4.1,-4.1 4.1,-3.475 ; 3.475,4.1 4.1,4.1 4.1,3.475
Mechanical 13:
  circle w0.1: c-3.175,3.175 r0.5
  lines w0.1: -4.075,-4.075 4.075,-4.075 4.075,4.075 -4.075,4.075 -4.075,-4.075
Mechanical 15:
  lines w0.1: -0.5,0 0.5,0 ; 0,-0.5 0,0.5 ; -4.4,-4.4 4.4,-4.4 4.4,4.4 -4.4,4.4 -4.4,-4.4
3D body: height 1, standoff 0, extent -4.075,-4.075 4.075,4.075

## QFN65P800X800-40W3L [mm] "QFN, 40-Leads, Body 8x8 mm, Pitch 0.65mm, IPC High Density"
height 0.8
pads (41):
  oval 0.65x0.3 smd: 1(-3.975,2.925) 2(-3.975,2.275) 3(-3.975,1.625) 4(-3.975,0.975) 5(-3.975,0.325) 6(-3.975,-0.325) 7(-3.975,-0.975) 8(-3.975,-1.625) 9(-3.975,-2.275) 10(-3.975,-2.925) 21(3.975,-2.925) 22(3.975,-2.275) 23(3.975,-1.625) 24(3.975,-0.975) 25(3.975,-0.325) 26(3.975,0.325) 27(3.975,0.975) 28(3.975,1.625) 29(3.975,2.275) 30(3.975,2.925)
  oval 0.3x0.65 smd: 11(-2.925,-3.975) 12(-2.275,-3.975) 13(-1.625,-3.975) 14(-0.975,-3.975) 15(-0.325,-3.975) 16(0.325,-3.975) 17(0.975,-3.975) 18(1.625,-3.975) 19(2.275,-3.975) 20(2.925,-3.975) 31(2.925,3.975) 32(2.275,3.975) 33(1.625,3.975) 34(0.975,3.975) 35(0.325,3.975) 36(-0.325,3.975) 37(-0.975,3.975) 38(-1.625,3.975) 39(-2.275,3.975) 40(-2.925,3.975)
  rect 6.8x6.8 smd: 41(0,0)
via 3,-3 diameter 0.66 hole 0.33
via 1.8,-3 diameter 0.66 hole 0.33
via 0.6,-3 diameter 0.66 hole 0.33
via -0.6,-3 diameter 0.66 hole 0.33
via -1.8,-3 diameter 0.66 hole 0.33
via -3,-3 diameter 0.66 hole 0.33
via 3,-1.8 diameter 0.66 hole 0.33
via 1.8,-1.8 diameter 0.66 hole 0.33
via 0.6,-1.8 diameter 0.66 hole 0.33
via -0.6,-1.8 diameter 0.66 hole 0.33
via -1.8,-1.8 diameter 0.66 hole 0.33
via -3,-1.8 diameter 0.66 hole 0.33
via 3,-0.6 diameter 0.66 hole 0.33
via 1.8,-0.6 diameter 0.66 hole 0.33
via 0.6,-0.6 diameter 0.66 hole 0.33
via -0.6,-0.6 diameter 0.66 hole 0.33
via -1.8,-0.6 diameter 0.66 hole 0.33
via -3,-0.6 diameter 0.66 hole 0.33
via 3,0.6 diameter 0.66 hole 0.33
via 1.8,0.6 diameter 0.66 hole 0.33
via 0.6,0.6 diameter 0.66 hole 0.33
via -0.6,0.6 diameter 0.66 hole 0.33
via -1.8,0.6 diameter 0.66 hole 0.33
via -3,0.6 diameter 0.66 hole 0.33
via 3,1.8 diameter 0.66 hole 0.33
via 1.8,1.8 diameter 0.66 hole 0.33
via 0.6,1.8 diameter 0.66 hole 0.33
via -0.6,1.8 diameter 0.66 hole 0.33
via -1.8,1.8 diameter 0.66 hole 0.33
via -3,1.8 diameter 0.66 hole 0.33
via 3,3 diameter 0.66 hole 0.33
via 1.8,3 diameter 0.66 hole 0.33
via 0.6,3 diameter 0.66 hole 0.33
via -0.6,3 diameter 0.66 hole 0.33
via -1.8,3 diameter 0.66 hole 0.33
via -3,3 diameter 0.66 hole 0.33
Top Overlay:
  circle w0.25: c-4.85,2.925 r0.125
  lines w0.2: -4.1,-3.475 -4.1,-4.1 -3.475,-4.1 ; -4.1,3.475 -4.1,4.1 -3.475,4.1 ; 3.475,-4.1 4.1,-4.1 4.1,-3.475 ; 3.475,4.1 4.1,4.1 4.1,3.475
Mechanical 13:
  circle w0.1: c-3.175,3.175 r0.5
  lines w0.1: -4.075,-4.075 4.075,-4.075 4.075,4.075 -4.075,4.075 -4.075,-4.075
Mechanical 15:
  lines w0.1: -0.5,0 0.5,0 ; 0,-0.5 0,0.5 ; -4.4,-4.4 4.4,-4.4 4.4,4.4 -4.4,4.4 -4.4,-4.4
3D body: height 0.8, standoff 0, extent -4.075,-4.075 4.075,4.075

## QFN65P800X800-40WL [mm] "QFN, 40-Leads, Body 8x8 mm, Pitch 0.65mm, IPC High Density"
height 0.8
pads (41):
  oval 0.95x0.3 smd: 1(-3.825,2.925) 2(-3.825,2.275) 3(-3.825,1.625) 4(-3.825,0.975) 5(-3.825,0.325) 6(-3.825,-0.325) 7(-3.825,-0.975) 8(-3.825,-1.625) 9(-3.825,-2.275) 10(-3.825,-2.925) 21(3.825,-2.925) 22(3.825,-2.275) 23(3.825,-1.625) 24(3.825,-0.975) 25(3.825,-0.325) 26(3.825,0.325) 27(3.825,0.975) 28(3.825,1.625) 29(3.825,2.275) 30(3.825,2.925)
  oval 0.3x0.95 smd: 11(-2.925,-3.825) 12(-2.275,-3.825) 13(-1.625,-3.825) 14(-0.975,-3.825) 15(-0.325,-3.825) 16(0.325,-3.825) 17(0.975,-3.825) 18(1.625,-3.825) 19(2.275,-3.825) 20(2.925,-3.825) 31(2.925,3.825) 32(2.275,3.825) 33(1.625,3.825) 34(0.975,3.825) 35(0.325,3.825) 36(-0.325,3.825) 37(-0.975,3.825) 38(-1.625,3.825) 39(-2.275,3.825) 40(-2.925,3.825)
  rect 6.3x6.3 smd: 41(0,0)
via 2.4,-2.4 diameter 0.66 hole 0.33
via 1.2,-2.4 diameter 0.66 hole 0.33
via 0,-2.4 diameter 0.66 hole 0.33
via -1.2,-2.4 diameter 0.66 hole 0.33
via -2.4,-2.4 diameter 0.66 hole 0.33
via 2.4,-1.2 diameter 0.66 hole 0.33
via 1.2,-1.2 diameter 0.66 hole 0.33
via 0,-1.2 diameter 0.66 hole 0.33
via -1.2,-1.2 diameter 0.66 hole 0.33
via -2.4,-1.2 diameter 0.66 hole 0.33
via 2.4,0 diameter 0.66 hole 0.33
via 1.2,0 diameter 0.66 hole 0.33
via 0,0 diameter 0.66 hole 0.33
via -1.2,0 diameter 0.66 hole 0.33
via -2.4,0 diameter 0.66 hole 0.33
via 2.4,1.2 diameter 0.66 hole 0.33
via 1.2,1.2 diameter 0.66 hole 0.33
via 0,1.2 diameter 0.66 hole 0.33
via -1.2,1.2 diameter 0.66 hole 0.33
via -2.4,1.2 diameter 0.66 hole 0.33
via 2.4,2.4 diameter 0.66 hole 0.33
via 1.2,2.4 diameter 0.66 hole 0.33
via 0,2.4 diameter 0.66 hole 0.33
via -1.2,2.4 diameter 0.66 hole 0.33
via -2.4,2.4 diameter 0.66 hole 0.33
Top Overlay:
  circle w0.25: c-4.85,2.925 r0.125
  lines w0.2: -4.1,-3.475 -4.1,-4.1 -3.475,-4.1 ; -4.1,3.475 -4.1,4.1 -3.475,4.1 ; 3.475,-4.1 4.1,-4.1 4.1,-3.475 ; 3.475,4.1 4.1,4.1 4.1,3.475
Mechanical 13:
  circle w0.1: c-3.175,3.175 r0.5
  lines w0.1: -4.075,-4.075 4.075,-4.075 4.075,4.075 -4.075,4.075 -4.075,-4.075
Mechanical 15:
  lines w0.1: -0.5,0 0.5,0 ; 0,-0.5 0,0.5 ; -4.4,-4.4 4.4,-4.4 4.4,4.4 -4.4,4.4 -4.4,-4.4
3D body: height 0.8, standoff 0, extent -4.075,-4.075 4.075,4.075

## QFN65P800X800-44V2L [mm] "QFN, 44-Leads, Body 8x8 mm, Pitch 0.65mm, IPC High Density"
height 1
pads (45):
  oval 0.65x0.3 smd: 1(-3.975,3.25) 2(-3.975,2.6) 3(-3.975,1.95) 4(-3.975,1.3) 5(-3.975,0.65) 6(-3.975,0) 7(-3.975,-0.65) 8(-3.975,-1.3) 9(-3.975,-1.95) 10(-3.975,-2.6) 11(-3.975,-3.25) 23(3.975,-3.25) 24(3.975,-2.6) 25(3.975,-1.95) 26(3.975,-1.3) 27(3.975,-0.65) 28(3.975,0) 29(3.975,0.65) 30(3.975,1.3) 31(3.975,1.95) 32(3.975,2.6) 33(3.975,3.25)
  oval 0.3x0.65 smd: 12(-3.25,-3.975) 13(-2.6,-3.975) 14(-1.95,-3.975) 15(-1.3,-3.975) 16(-0.65,-3.975) 17(0,-3.975) 18(0.65,-3.975) 19(1.3,-3.975) 20(1.95,-3.975) 21(2.6,-3.975) 22(3.25,-3.975) 34(3.25,3.975) 35(2.6,3.975) 36(1.95,3.975) 37(1.3,3.975) 38(0.65,3.975) 39(0,3.975) 40(-0.65,3.975) 41(-1.3,3.975) 42(-1.95,3.975) 43(-2.6,3.975) 44(-3.25,3.975)
  rect 6.8x6.8 smd: 45(0,0)
via 3,-3 diameter 0.66 hole 0.33
via 1.8,-3 diameter 0.66 hole 0.33
via 0.6,-3 diameter 0.66 hole 0.33
via -0.6,-3 diameter 0.66 hole 0.33
via -1.8,-3 diameter 0.66 hole 0.33
via -3,-3 diameter 0.66 hole 0.33
via 3,-1.8 diameter 0.66 hole 0.33
via 1.8,-1.8 diameter 0.66 hole 0.33
via 0.6,-1.8 diameter 0.66 hole 0.33
via -0.6,-1.8 diameter 0.66 hole 0.33
via -1.8,-1.8 diameter 0.66 hole 0.33
via -3,-1.8 diameter 0.66 hole 0.33
via 3,-0.6 diameter 0.66 hole 0.33
via 1.8,-0.6 diameter 0.66 hole 0.33
via 0.6,-0.6 diameter 0.66 hole 0.33
via -0.6,-0.6 diameter 0.66 hole 0.33
via -1.8,-0.6 diameter 0.66 hole 0.33
via -3,-0.6 diameter 0.66 hole 0.33
via 3,0.6 diameter 0.66 hole 0.33
via 1.8,0.6 diameter 0.66 hole 0.33
via 0.6,0.6 diameter 0.66 hole 0.33
via -0.6,0.6 diameter 0.66 hole 0.33
via -1.8,0.6 diameter 0.66 hole 0.33
via -3,0.6 diameter 0.66 hole 0.33
via 3,1.8 diameter 0.66 hole 0.33
via 1.8,1.8 diameter 0.66 hole 0.33
via 0.6,1.8 diameter 0.66 hole 0.33
via -0.6,1.8 diameter 0.66 hole 0.33
via -1.8,1.8 diameter 0.66 hole 0.33
via -3,1.8 diameter 0.66 hole 0.33
via 3,3 diameter 0.66 hole 0.33
via 1.8,3 diameter 0.66 hole 0.33
via 0.6,3 diameter 0.66 hole 0.33
via -0.6,3 diameter 0.66 hole 0.33
via -1.8,3 diameter 0.66 hole 0.33
via -3,3 diameter 0.66 hole 0.33
Top Overlay:
  circle w0.25: c-4.85,3.25 r0.125
  lines w0.2: -4.1,-3.8 -4.1,-4.1 -3.8,-4.1 ; -4.1,3.8 -4.1,4.1 -3.8,4.1 ; 3.8,-4.1 4.1,-4.1 4.1,-3.8 ; 3.8,4.1 4.1,4.1 4.1,3.8
Mechanical 13:
  circle w0.1: c-3.175,3.175 r0.5
  lines w0.1: -4.075,-4.075 4.075,-4.075 4.075,4.075 -4.075,4.075 -4.075,-4.075
Mechanical 15:
  lines w0.1: -0.5,0 0.5,0 ; 0,-0.5 0,0.5 ; -4.4,-4.4 4.4,-4.4 4.4,4.4 -4.4,4.4 -4.4,-4.4
3D body: height 1, standoff 0, extent -4.075,-4.075 4.075,4.075

## QFN65P800X800-44W2L [mm] "QFN, 44-Leads, Body 8x8 mm, Pitch 0.65mm, IPC High Density"
height 0.8
pads (45):
  oval 0.65x0.3 smd: 1(-3.975,3.25) 2(-3.975,2.6) 3(-3.975,1.95) 4(-3.975,1.3) 5(-3.975,0.65) 6(-3.975,0) 7(-3.975,-0.65) 8(-3.975,-1.3) 9(-3.975,-1.95) 10(-3.975,-2.6) 11(-3.975,-3.25) 23(3.975,-3.25) 24(3.975,-2.6) 25(3.975,-1.95) 26(3.975,-1.3) 27(3.975,-0.65) 28(3.975,0) 29(3.975,0.65) 30(3.975,1.3) 31(3.975,1.95) 32(3.975,2.6) 33(3.975,3.25)
  oval 0.3x0.65 smd: 12(-3.25,-3.975) 13(-2.6,-3.975) 14(-1.95,-3.975) 15(-1.3,-3.975) 16(-0.65,-3.975) 17(0,-3.975) 18(0.65,-3.975) 19(1.3,-3.975) 20(1.95,-3.975) 21(2.6,-3.975) 22(3.25,-3.975) 34(3.25,3.975) 35(2.6,3.975) 36(1.95,3.975) 37(1.3,3.975) 38(0.65,3.975) 39(0,3.975) 40(-0.65,3.975) 41(-1.3,3.975) 42(-1.95,3.975) 43(-2.6,3.975) 44(-3.25,3.975)
  rect 6.8x6.8 smd: 45(0,0)
via 3,-3 diameter 0.66 hole 0.33
via 1.8,-3 diameter 0.66 hole 0.33
via 0.6,-3 diameter 0.66 hole 0.33
via -0.6,-3 diameter 0.66 hole 0.33
via -1.8,-3 diameter 0.66 hole 0.33
via -3,-3 diameter 0.66 hole 0.33
via 3,-1.8 diameter 0.66 hole 0.33
via 1.8,-1.8 diameter 0.66 hole 0.33
via 0.6,-1.8 diameter 0.66 hole 0.33
via -0.6,-1.8 diameter 0.66 hole 0.33
via -1.8,-1.8 diameter 0.66 hole 0.33
via -3,-1.8 diameter 0.66 hole 0.33
via 3,-0.6 diameter 0.66 hole 0.33
via 1.8,-0.6 diameter 0.66 hole 0.33
via 0.6,-0.6 diameter 0.66 hole 0.33
via -0.6,-0.6 diameter 0.66 hole 0.33
via -1.8,-0.6 diameter 0.66 hole 0.33
via -3,-0.6 diameter 0.66 hole 0.33
via 3,0.6 diameter 0.66 hole 0.33
via 1.8,0.6 diameter 0.66 hole 0.33
via 0.6,0.6 diameter 0.66 hole 0.33
via -0.6,0.6 diameter 0.66 hole 0.33
via -1.8,0.6 diameter 0.66 hole 0.33
via -3,0.6 diameter 0.66 hole 0.33
via 3,1.8 diameter 0.66 hole 0.33
via 1.8,1.8 diameter 0.66 hole 0.33
via 0.6,1.8 diameter 0.66 hole 0.33
via -0.6,1.8 diameter 0.66 hole 0.33
via -1.8,1.8 diameter 0.66 hole 0.33
via -3,1.8 diameter 0.66 hole 0.33
via 3,3 diameter 0.66 hole 0.33
via 1.8,3 diameter 0.66 hole 0.33
via 0.6,3 diameter 0.66 hole 0.33
via -0.6,3 diameter 0.66 hole 0.33
via -1.8,3 diameter 0.66 hole 0.33
via -3,3 diameter 0.66 hole 0.33
Top Overlay:
  circle w0.25: c-4.85,3.25 r0.125
  lines w0.2: -4.1,-3.8 -4.1,-4.1 -3.8,-4.1 ; -4.1,3.8 -4.1,4.1 -3.8,4.1 ; 3.8,-4.1 4.1,-4.1 4.1,-3.8 ; 3.8,4.1 4.1,4.1 4.1,3.8
Mechanical 13:
  circle w0.1: c-3.175,3.175 r0.5
  lines w0.1: -4.075,-4.075 4.075,-4.075 4.075,4.075 -4.075,4.075 -4.075,-4.075
Mechanical 15:
  lines w0.1: -0.5,0 0.5,0 ; 0,-0.5 0,0.5 ; -4.4,-4.4 4.4,-4.4 4.4,4.4 -4.4,4.4 -4.4,-4.4
3D body: height 0.8, standoff 0, extent -4.075,-4.075 4.075,4.075